# EAGLE library part MAX17222 (library chips)
Very high efficiency, very low power boost converter suitable for EH applications
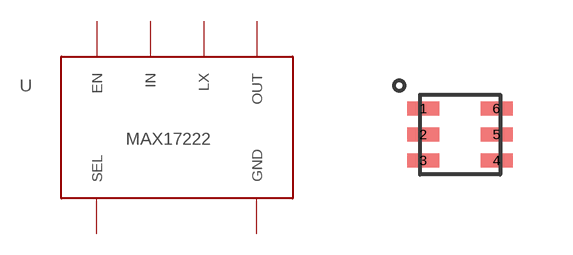
[diagram p78: symbol with the pads of UDFN-6-MAXIM; footprint UDFN-6-MAXIM]

Designator prefix U

## MAX17222 (DIGIKEY: MAX17222ELT+TCT-ND; MANUFACTURER: MAXIM INTEGRATED; MPN: MAX17222ELT+T)  [UDFN-6-MAXIM]
1  OUT
2  LX
3  GND
4  SEL
5  IN
6  EN

## Footprint UDFN-6-MAXIM (pad centres in mm)
smd 0.8 x 0.35: 1 -0.915,0.65; 2 -0.915,0; 3 -0.915,-0.65; 4 0.915,-0.65; 5 0.915,0; 6 0.915,0.65